# Altium footprint library Drivers.PcbLib: 1 footprints
Each footprint in its own frame and in the unit in brackets; x right, y up, seen from the top. Pads: shape width x height; smd on the part's side, far side on the other; paste and mask are expansions set on the pad; w line width, h text height; cw(c..) or ccw(c..) is an arc to the next point about the centre after c.
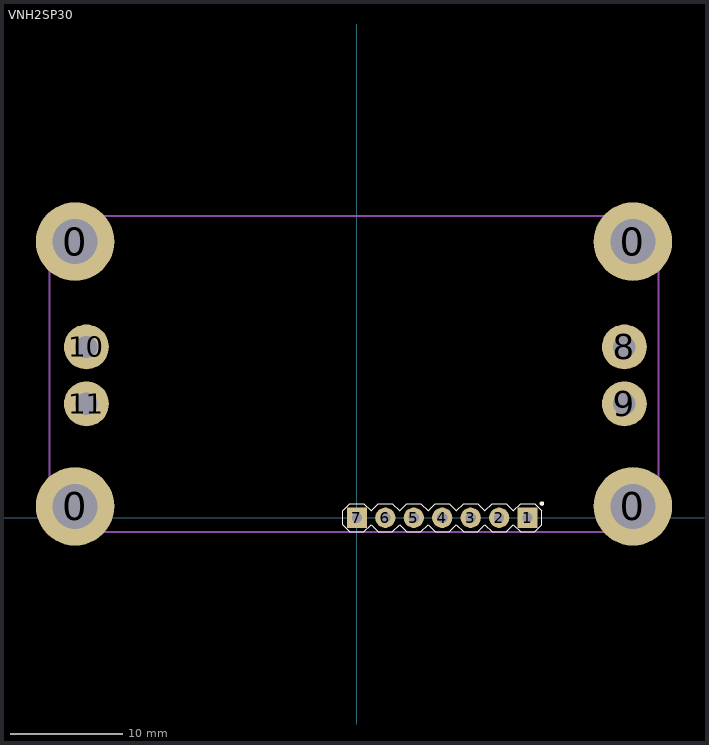
[diagram p0: the footprint, top view; thin cyan lines are the x and y axes]

## VNH2SP30 [mm] "Driver Board"
height 22
pads (15):
  round 7 hole 4: 0(-25.146,1.016) 0(-25.146,24.638) 0(24.638,1.016) 0(24.638,24.638)
  rect 1.8x1.8 hole 0.9: 1(15.24,0) 7(0,0)
  round 1.8 hole 0.9: 2(12.7,0) 3(10.16,0) 4(7.62,0) 5(5.08,0) 6(2.54,0)
  round 4 hole 2: 8(23.876,15.24) 9(23.876,10.16) 10(-24.13,15.24) 11(-24.13,10.16)
Top Overlay:
  circle w0.2: c16.51,1.27 r0.1
  lines w0.1: -1.27,-0.635 -1.27,0.635 -0.635,1.27 0.635,1.27 1.27,0.635 1.905,1.27 3.175,1.27 3.81,0.635 4.445,1.27 5.715,1.27 6.35,0.635 6.985,1.27 8.255,1.27 8.89,0.635 9.525,1.27 10.795,1.27 11.43,0.635 12.065,1.27 13.335,1.27 13.97,0.635 14.605,1.27 15.875,1.27 16.51,0.635 16.51,-0.635 15.875,-1.27 14.605,-1.27 13.97,-0.635 13.335,-1.27 12.065,-1.27 11.43,-0.635 10.795,-1.27 9.525,-1.27 8.89,-0.635 8.255,-1.27 6.985,-1.27 6.35,-0.635 5.715,-1.27 4.445,-1.27 3.81,-0.635 3.175,-1.27 1.905,-1.27 1.27,-0.635 0.635,-1.27 -0.635,-1.27 -1.27,-0.635
Mechanical 15:
  lines w0.2: -27.432,-1.27 26.924,-1.27 26.924,26.924 -27.432,26.924 -27.432,-1.27
3D body: height 8.6, standoff -2.9, extent 1.269,-1.25 6.35,1.25
3D body: height 8.6, standoff -2.9, extent 11.429,-1.25 16.51,1.25
3D body: height 8.6, standoff -2.9, extent 6.349,-1.25 11.43,1.25
3D body: height 8.5, standoff -3, extent -1.27,-1.25 1.27,1.25
3D body: height 7, standoff 6, extent -27.432,-1.27 26.924,26.924